# Altium footprint library 7361-38.PcbLib: 1 footprints
Each footprint in its own frame and in the unit in brackets; x right, y up, seen from the top. Pads: shape width x height; smd on the part's side, far side on the other; paste and mask are expansions set on the pad; w line width, h text height; cw(c..) or ccw(c..) is an arc to the next point about the centre after c.
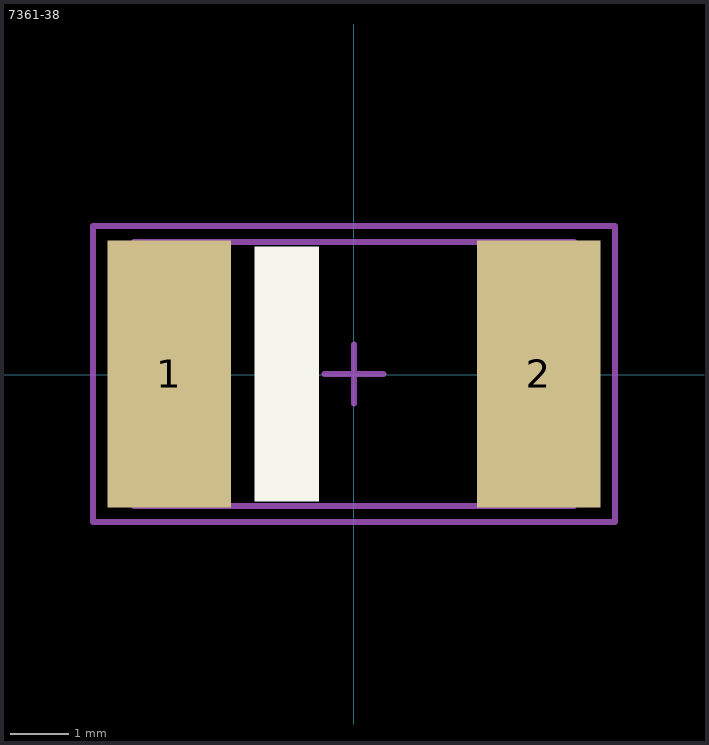
[diagram p0: the footprint, top view; thin cyan lines are the x and y axes]

## 7361-38 [mm]
height 3.8
pads (2):
  rect 2.1x4.55 smd: 1(-3.15,0.009) 2(3.15,0.009)
Top Overlay:
  rectangle: -1.7,-2.166 -0.6,2.184
Mechanical 13:
  lines w0.1: -3.75,-2.241 -3.75,2.259 3.75,2.259 3.75,-2.241 -3.75,-2.241
Mechanical 15:
  lines w0.1: -0.5,0.009 0.5,0.009 ; 0,-0.491 0,0.509 ; -4.45,-2.516 -4.45,2.534 4.45,2.534 4.45,-2.516 -4.45,-2.516
3D body "User Library-CT_V.step": height 3.45, standoff 0, extent -3.65,-3.05 3.65,3.05